# Altium footprint library Zeter_PCB_Lib.PcbLib: 22 footprints (part 2 of 2)
Each footprint in its own frame and in the unit in brackets; x right, y up, seen from the top. Pads: shape width x height; smd on the part's side, far side on the other; paste and mask are expansions set on the pad; w line width, h text height; cw(c..) or ccw(c..) is an arc to the next point about the centre after c.
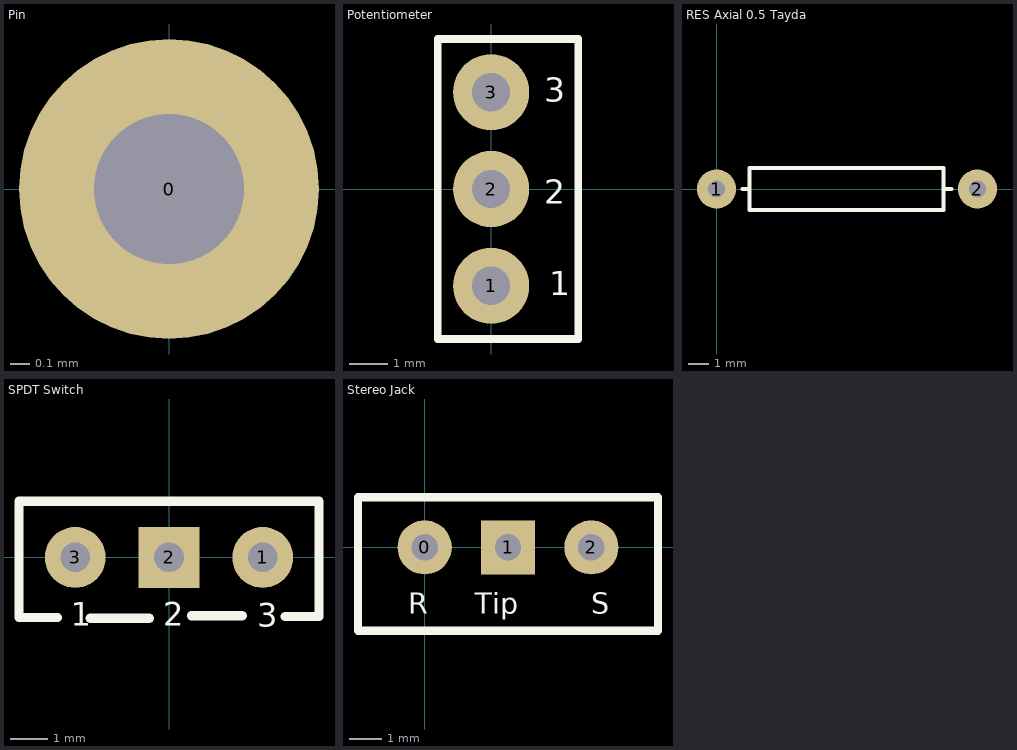
[diagram p1: the footprints below, top view; thin cyan lines are the x and y axes]

## PCBComponent_1 [mm]

## Pin [mil] "General Purpose I/O pin"
pads (1):
  round 60 hole 30: 0(0,0)

## Potentiometer [mm] "Normal Pinout"
pads (3):
  round 2 hole 1: 1(0,-2.54) 2(0,0) 3(0,2.54)
Top Overlay:
  lines w0.2: -1.397,-3.937 -1.397,3.937 2.286,3.937 2.286,-3.937 -1.397,-3.937
  text "1" at 1.524,-2.794 h0.64
  text "2" at 1.397,-0.381 h0.64
  text "3" at 1.397,2.286 h0.64

## RES Axial 0.5 Tayda [mil]
pads (2):
  round 75 hole 32: 1(0,0) 2(500,0)
Top Overlay:
  lines w7.87: 50,0 60,0 ; 440,0 450,0 ; 63,-40 63,40 435,40 435,-40 270,-40 63,-40

## SPDT Switch [mil] "SPDT Switch"
pads (3):
  round 65 hole 31.5: 1(100,0) 3(-100,0)
  rect 65x65 hole 31.5: 2(0,0)
Top Overlay:
  lines w10: -119,-64 -160,-64 -160,60 160,60 160,-63 124,-63 ; -84,-65 -21,-65 ; 24,-62 78,-62
  text "3" at 94,-74 h25
  text "2" at -6,-73 h25
  text "1" at -105,-73 h25

## Stereo Jack [mil] "Stereo Jack"
pads (3):
  round 65 hole 31.5: 0(0,0) 2(200,0)
  rect 65x65 hole 31.5: 1(100,0)
Top Overlay:
  lines w10: -80,-100 280,-100 280,60 -80,60 -80,-100
  text "R" at -20,-80 h25
  text "Tip" at 60,-80 h25
  text "S" at 200,-80 h25